# Altium schematic symbol library Motor Driver - Stepper.SchLib: 6 symbols
Pins are listed as number, name and electrical type; pins without a type are passive.

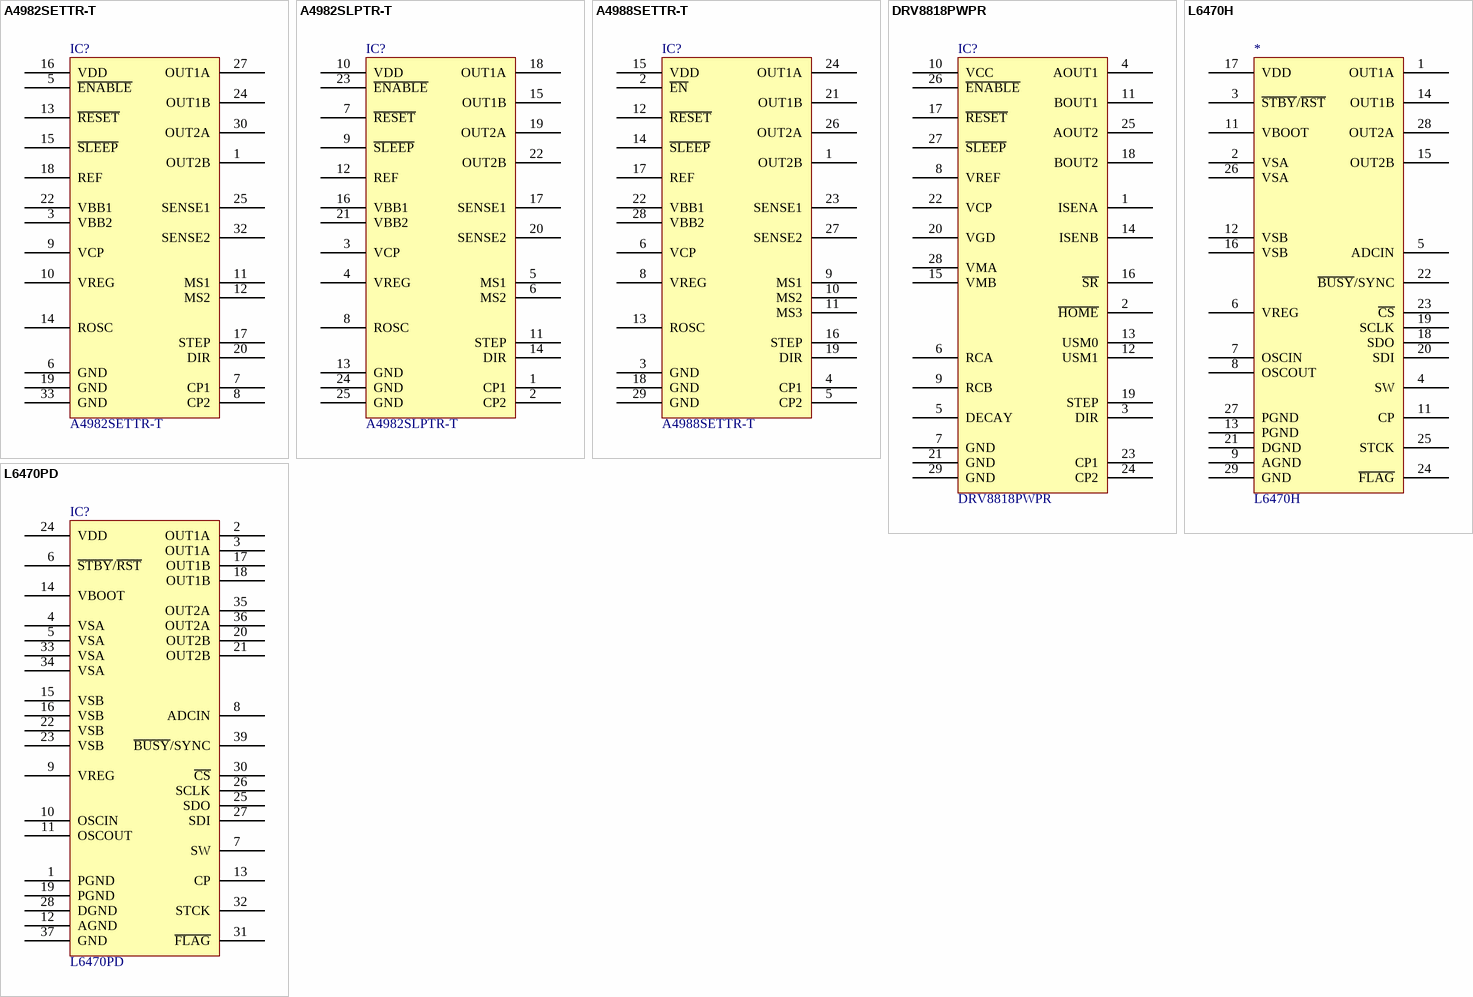
[diagram p0: symbols A4982SETTR-T to L6470PD]

## A4982SETTR-T
designator IC?
IC MOTOR DRIVER PAR 32QFN; Manufacturer: Allegro MicroSystems, LLC; Motor Type - Stepper: Bipolar; Function: Driver - Fully Integrated, Control and Power Stage; Output Configuration: Half Bridge (4); Interface: Step/Direction; Step Resolution: 1, 1/2, 1/4, 1/16; Current - Output: 2A; Voltage - Supply: 3 V ~ 5.5 V; Voltage - Load: 8 V ~ 35 V; Part Number: A4982SETTR-T; PartId: 9284; Supplier 1: Digi-Key; Supplier Part Number 1: 620-1340-2-ND; ComponentLink1Description: Datasheet; ComponentLink1URL: http://www.allegromicro.com/en/Products/Part_Numbers/4982/4982.pdf; ComponentLink2Description: Digi-Key Listing; ComponentLink2URL: http://www.digikey.ca/product-detail/en/A4982SETTR-T/620-1340-2-ND/2237987; Price: 2.5086; Device Package: 32-VFQFN Exposed Pad; Motor Type - AC, DC: -; Technology: DMOS
footprint ALLEGRO QFN-32 ET
pins: 1 OUT2B, 3 VBB2, 5 ~{ENABLE}, 6 GND, 7 CP1, 8 CP2, 9 VCP, 10 VREG, 11 MS1, 12 MS2, 13 ~{RESET}, 14 ROSC, 15 ~{SLEEP}, 16 VDD, 17 STEP, 18 REF, 19 GND, 20 DIR, 22 VBB1, 24 OUT1B, 25 SENSE1, 27 OUT1A, 30 OUT2A, 32 SENSE2, 33 GND

## A4982SLPTR-T
designator IC?
IC MOTOR DRIVER PAR 24TSSOP; Manufacturer: Allegro MicroSystems, LLC; Motor Type - Stepper: Bipolar; Function: Driver - Fully Integrated, Control and Power Stage; Output Configuration: Half Bridge (4); Interface: Step/Direction; Step Resolution: 1, 1/2, 1/4, 1/16; Current - Output: 2A; Voltage - Supply: 3 V ~ 5.5 V; Voltage - Load: 8 V ~ 35 V; Part Number: A4982SLPTR-T; PartId: 9285; Supplier 1: Digi-Key; Supplier Part Number 1: 620-1352-2-ND; ComponentLink1Description: Datasheet; ComponentLink1URL: http://www.allegromicro.com/en/Products/Part_Numbers/4982/4982.pdf; ComponentLink2Description: Digi-Key Listing; ComponentLink2URL: http://www.digikey.ca/product-detail/en/A4982SLPTR-T/620-1352-2-ND/2295512; Price: 2.5222; Device Package: 24-TSSOP (0.173", 4.40mm Width) Exposed Pad; Motor Type - AC, DC: -; Technology: DMOS
footprint ALLEGRO TSSOP-24 LP
pins: 1 CP1, 2 CP2, 3 VCP, 4 VREG, 5 MS1, 6 MS2, 7 ~{RESET}, 8 ROSC, 9 ~{SLEEP}, 10 VDD, 11 STEP, 12 REF, 13 GND, 14 DIR, 15 OUT1B, 16 VBB1, 17 SENSE1, 18 OUT1A, 19 OUT2A, 20 SENSE2, 21 VBB2, 22 OUT2B, 23 ~{ENABLE}, 24 GND, 25 GND

## A4988SETTR-T
designator IC?
IC MOTOR DRIVER PAR 28QFN; Manufacturer: Allegro MicroSystems, LLC; Motor Type - Stepper: Bipolar; Function: Driver - Fully Integrated, Control and Power Stage; Output Configuration: Half Bridge (4); Interface: Step/Direction; Step Resolution: 1, 1/2, 1/4, 1/8, 1/16; Current - Output: 2A; Voltage - Supply: 3 V ~ 5.5 V; Voltage - Load: 8 V ~ 35 V; Part Number: A4988SETTR-T; PartId: 9283; Supplier 1: Digi-Key; Supplier Part Number 1: 620-1343-2-ND; ComponentLink1Description: Datasheet; ComponentLink1URL: http://www.allegromicro.com/en/Products/Part_Numbers/4988/4988.pdf; ComponentLink2Description: Digi-Key Listing; ComponentLink2URL: http://www.digikey.ca/product-detail/en/A4988SETTR-T/620-1343-2-ND/2237991; Price: 2.3831; Device Package: 28-VFQFN Exposed Pad; Motor Type - AC, DC: -; Technology: DMOS
footprint Allegro QFN-28 ET
pins: 1 OUT2B, 2 ~{EN}, 3 GND, 4 CP1, 5 CP2, 6 VCP, 8 VREG, 9 MS1, 10 MS2, 11 MS3, 12 ~{RESET}, 13 ROSC, 14 ~{SLEEP}, 15 VDD, 16 STEP, 17 REF, 18 GND, 19 DIR, 21 OUT1B, 22 VBB1, 23 SENSE1, 24 OUT1A, 26 OUT2A, 27 SENSE2, 28 VBB2, 29 GND

## DRV8818PWPR
designator IC?
IC MOTOR DRIVER PAR 28HTSSOP; Manufacturer: Texas Instruments; Motor Type - Stepper: Bipolar; Function: Driver - Fully Integrated, Control and Power Stage; Output Configuration: Half Bridge (4); Interface: Step/Direction; Step Resolution: 1, 1/2, 1/4, 1/8; Current - Output: 2.5A; Voltage - Supply: 3 V ~ 5.5 V; Voltage - Load: 8 V ~ 35 V; Part Number: DRV8818PWPR; PartId: 9286; Supplier 1: Digi-Key; Supplier Part Number 1: 296-31642-2-ND; ComponentLink1Description: Datasheet; ComponentLink1URL: http://www.ti.com/lit/ds/symlink/drv8818.pdf; ComponentLink2Description: Digi-Key Listing; ComponentLink2URL: http://www.digikey.ca/product-detail/en/DRV8818PWPR/296-31642-2-ND/3045978; Price: 3.1077; Device Package: 28-TSSOP (0.173", 4.40mm Width) Exposed Pad; Motor Type - AC, DC: -; Technology: Power MOSFET
footprint TI HTSSOP-28 PWP
pins: 1 ISENA, 2 ~{HOME}, 3 DIR, 4 AOUT1, 5 DECAY, 6 RCA, 7 GND, 8 VREF, 9 RCB, 10 VCC, 11 BOUT1, 12 USM1, 13 USM0, 14 ISENB, 15 VMB, 16 ~{SR}, 17 ~{RESET}, 18 BOUT2, 19 STEP, 20 VGD, 21 GND, 22 VCP, 23 CP1, 24 CP2, 25 AOUT2, 26 ~{ENABLE}, 27 ~{SLEEP}, 28 VMA, 29 GND

## L6470H
designator *
IC MOTOR DRIVER SPI 28HTSSOP; Manufacturer: STMicroelectronics; Motor Type - Stepper: Bipolar; Function: Driver - Fully Integrated, Control and Power Stage; Output Configuration: Half Bridge (4); Step Resolution: 1 ~ 1/128; Current - Output: 3A; Voltage - Supply: 3.3V, 5V; Voltage - Load: 8 V ~ 45 V; Part Number: L6470H; PartId: 9281; Supplier 1: Digi-Key; Supplier Part Number 1: 497-14775-5-ND; ComponentLink1Description: Datasheet; ComponentLink1URL: http://www.st.com/web/en/resource/technical/document/datasheet/CD00255075.pdf; ComponentLink2Description: Digi-Key Listing; ComponentLink2URL: http://www.digikey.ca/product-detail/en/L6470H/497-14775-5-ND/2682927; Price: 12.08; Device Package: 28-TSSOP (0.173", 4.40mm Width) Exposed Pad; Motor Type - AC, DC: -; Interface: SPI; Technology: DMOS
footprint ST HTSSOP-28
pins: 1 OUT1A, 2 VSA, 3 ~{STBY}/~{RST}, 4 SW, 5 ADCIN, 6 VREG, 7 OSCIN, 8 OSCOUT, 9 AGND, 11 CP, 11 VBOOT, 12 VSB, 13 PGND, 14 OUT1B, 15 OUT2B, 16 VSB, 17 VDD, 18 SDO, 19 SCLK, 20 SDI, 21 DGND, 22 ~{BUSY}/SYNC, 23 ~{CS}, 24 ~{FLAG}, 25 STCK, 26 VSA, 27 PGND, 28 OUT2A, 29 GND

## L6470PD
designator IC?
IC MOTOR DRIVER SPI 36POWERSSO; Manufacturer: STMicroelectronics; Motor Type - Stepper: Bipolar; Function: Driver - Fully Integrated, Control and Power Stage; Output Configuration: Half Bridge (4); Step Resolution: 1 ~ 1/128; Current - Output: 3A; Voltage - Supply: 3.3V, 5V; Voltage - Load: 8 V ~ 45 V; Part Number: L6470PD; PartId: 9282; Supplier 1: Digi-Key; Supplier Part Number 1: 497-13416-ND; ComponentLink1Description: Datasheet; ComponentLink1URL: http://www.st.com/web/en/resource/technical/document/datasheet/CD00255075.pdf; ComponentLink2Description: Digi-Key Listing; ComponentLink2URL: http://www.digikey.ca/product-detail/en/L6470PD/497-13416-ND/3748904; Price: 13.5; Device Package: 36-BSSOP (0.433", 11.00mm Width) Exposed Pad; Motor Type - AC, DC: -; Interface: SPI; Technology: DMOS
footprint ST POWERSO-36
pins: 1 PGND, 2 OUT1A, 3 OUT1A, 4 VSA, 5 VSA, 6 ~{STBY}/~{RST}, 7 SW, 8 ADCIN, 9 VREG, 10 OSCIN, 11 OSCOUT, 12 AGND, 13 CP, 14 VBOOT, 15 VSB, 16 VSB, 17 OUT1B, 18 OUT1B, 19 PGND, 20 OUT2B, 21 OUT2B, 22 VSB, 23 VSB, 24 VDD, 25 SDO, 26 SCLK, 27 SDI, 28 DGND, 30 ~{CS}, 31 ~{FLAG}, 32 STCK, 33 VSA, 34 VSA, 35 OUT2A, 36 OUT2A, 37 GND, 39 ~{BUSY}/SYNC